# EAGLE library part MKS1866-6-0-1616 (library con-stocko)
Serie MKS 1850 Lötstifte In-line, Raster 2.5 mm, Stiftwannen, stehend, mit Rastlasche Source: http://www.stocko.de/de/index.php?seite=ka_rfk2_mks1850.html&rubrik=Katalog+-+RFK+2 rfk_1850.pdf
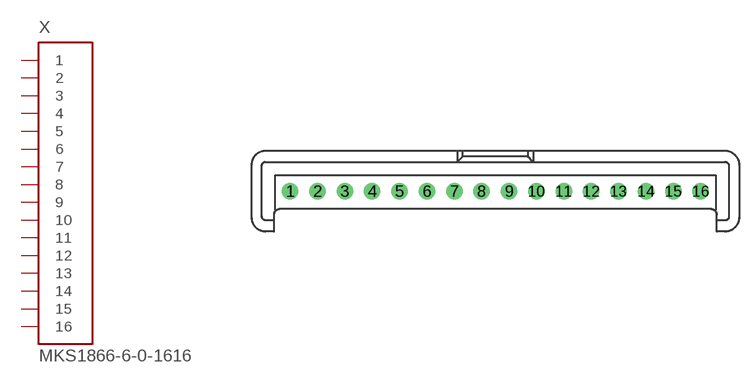
[diagram p7: symbol with the pads of MKS1866-6-0-1616; footprint MKS1866-6-0-1616]

Designator prefix X

## MKS1866-6-0-1616 (OC_FARNELL: unknown; OC_NEWARK: unknown)  [MKS1866-6-0-1616]
1  1  in
2  2  in
3  3  in
4  4  in
5  5  in
6  6  in
7  7  in
8  8  in
9  9  in
10  10  in
11  11  in
12  12  in
13  13  in
14  14  in
15  15  in
16  16  in

## Footprint MKS1866-6-0-1616 (pad centres in mm)
Serie MKS 1850 Lötstifte In-line, Raster 2.5 mm, Stiftwannen, stehend, mit Rastlasche Source: http://www.stocko.de/de/index.php?seite=ka_rfk2_mks1850.html&rubrik=Katalog+-+RFK+2 rfk_1850.pdf
drill 1 pad 1.422: 1 -18.75,0; 2 -16.25,0; 3 -13.75,0; 4 -11.25,0; 5 -8.75,0; 6 -6.25,0; 7 -3.75,0; 8 -1.25,0; 9 1.25,0; 10 3.75,0; 11 6.25,0; 12 8.75,0; 13 11.25,0; 14 13.75,0; 15 16.25,0; 16 18.75,0